# EAGLE library part SK3110 (library CASARIAE)
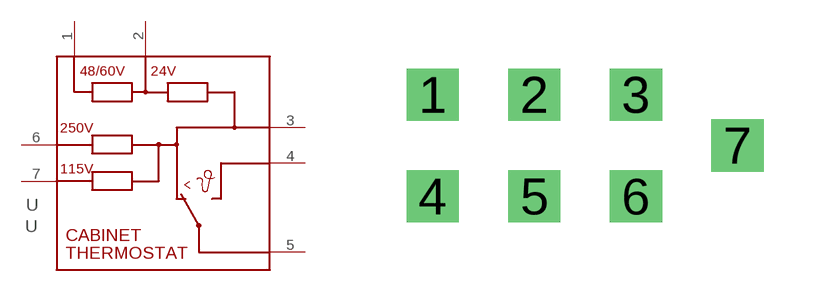
[diagram p3: symbol with the pads of THERMO; footprint THERMO]

Designator prefix -

## SK3110  [THERMO]
1  1
2  2
3  3
4  4
5  5
6  6
7  7

## Footprint THERMO (pad centres in mm)
drill 0.8 square: 1 -12.7,1.27; 2 -10.16,1.27; 3 -7.62,1.27; 4 -12.7,-1.27; 5 -10.16,-1.27; 6 -7.62,-1.27; 7 -5.08,0